# Altium schematic symbol library CFAG12864K.Schlib: 1 symbol
Pins are listed as number, name and electrical type; pins without a type are passive.

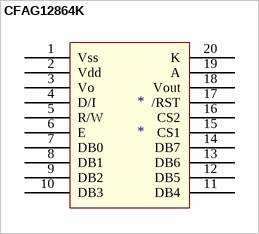
[diagram p0: symbol CFAG12864K]

## CFAG12864K
designator *
pins: 1 Vss, 2 Vdd, 3 Vo, 4 D/I, 5 R/W, 6 E, 7 DB0, 8 DB1, 9 DB2, 10 DB3, 11 DB4, 12 DB5, 13 DB6, 14 DB7, 15 CS1, 16 CS2, 17 /RST, 18 Vout, 19 A, 20 K